# Altium schematic symbol library PI3HDX12211ZHEX.SchLib: 1 symbol
Pins are listed as number, name and electrical type; pins without a type are passive.

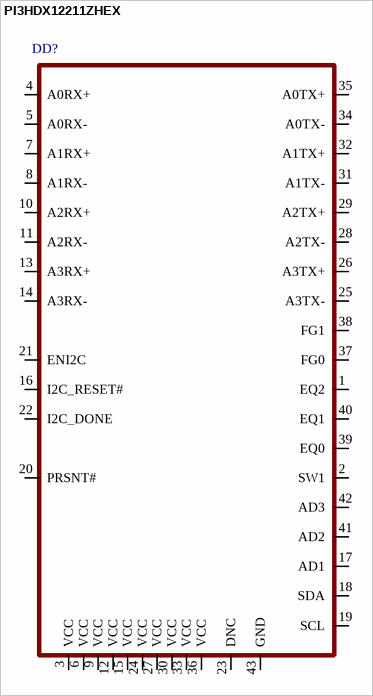
[diagram p0: symbol PI3HDX12211ZHEX]

## PI3HDX12211ZHEX
designator DD?
pins: 1 EQ2, 2 SW1, 3 VCC, 4 A0RX+, 5 A0RX-, 6 VCC, 7 A1RX+, 8 A1RX-, 9 VCC, 10 A2RX+, 11 A2RX-, 12 VCC, 13 A3RX+, 14 A3RX-, 15 VCC, 16 I2C_RESET#, 17 AD1, 18 SDA, 19 SCL, 20 PRSNT#, 21 ENI2C, 22 I2C_DONE, 23 DNC, 24 VCC, 25 A3TX-, 26 A3TX+, 27 VCC, 28 A2TX-, 29 A2TX+, 30 VCC, 31 A1TX-, 32 A1TX+, 33 VCC, 34 A0TX-, 35 A0TX+, 36 VCC, 37 FG0, 38 FG1, 39 EQ0, 40 EQ1, 41 AD2, 42 AD3, 43 GND